# Altium schematic symbol library SCH - MCU - NUVOTON - NUVOTON M451MLG6AE.SchLib: 1 symbol
Pins are listed as number, name and electrical type; pins without a type are passive.

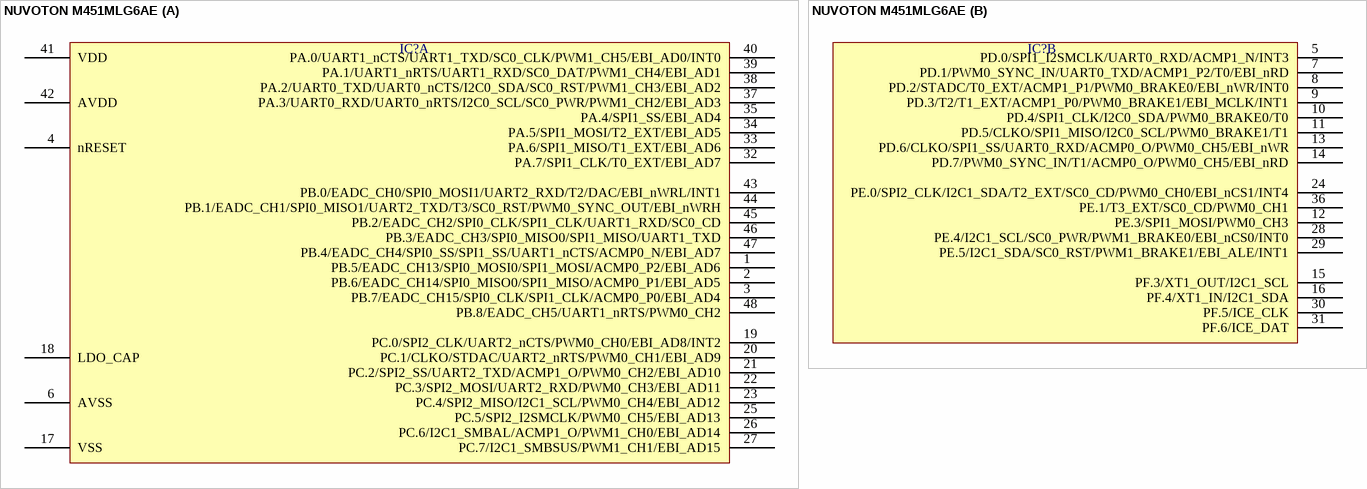
[diagram p0: symbol NUVOTON M451MLG6AE]

## NUVOTON M451MLG6AE
designator IC?  (value not drawn)
part A pins: 1 PB.5/EADC_CH13/SPI0_MOSI0/SPI1_MOSI/ACMP0_P2/EBI_AD6, 2 PB.6/EADC_CH14/SPI0_MISO0/SPI1_MISO/ACMP0_P1/EBI_AD5, 3 PB.7/EADC_CH15/SPI0_CLK/SPI1_CLK/ACMP0_P0/EBI_AD4, 4 nRESET, 6 AVSS, 17 VSS, 18 LDO_CAP, 19 PC.0/SPI2_CLK/UART2_nCTS/PWM0_CH0/EBI_AD8/INT2, 20 PC.1/CLKO/STDAC/UART2_nRTS/PWM0_CH1/EBI_AD9, 21 PC.2/SPI2_SS/UART2_TXD/ACMP1_O/PWM0_CH2/EBI_AD10, 22 PC.3/SPI2_MOSI/UART2_RXD/PWM0_CH3/EBI_AD11, 23 PC.4/SPI2_MISO/I2C1_SCL/PWM0_CH4/EBI_AD12, 25 PC.5/SPI2_I2SMCLK/PWM0_CH5/EBI_AD13, 26 PC.6/I2C1_SMBAL/ACMP1_O/PWM1_CH0/EBI_AD14, 27 PC.7/I2C1_SMBSUS/PWM1_CH1/EBI_AD15, 32 PA.7/SPI1_CLK/T0_EXT/EBI_AD7, 33 PA.6/SPI1_MISO/T1_EXT/EBI_AD6, 34 PA.5/SPI1_MOSI/T2_EXT/EBI_AD5, 35 PA.4/SPI1_SS/EBI_AD4, 37 PA.3/UART0_RXD/UART0_nRTS/I2C0_SCL/SC0_PWR/PWM1_CH2/EBI_AD3, 38 PA.2/UART0_TXD/UART0_nCTS/I2C0_SDA/SC0_RST/PWM1_CH3/EBI_AD2, 39 PA.1/UART1_nRTS/UART1_RXD/SC0_DAT/PWM1_CH4/EBI_AD1, 40 PA.0/UART1_nCTS/UART1_TXD/SC0_CLK/PWM1_CH5/EBI_AD0/INT0, 41 VDD, 42 AVDD, 43 PB.0/EADC_CH0/SPI0_MOSI1/UART2_RXD/T2/DAC/EBI_nWRL/INT1, 44 PB.1/EADC_CH1/SPI0_MISO1/UART2_TXD/T3/SC0_RST/PWM0_SYNC_OUT/EBI_nWRH, 45 PB.2/EADC_CH2/SPI0_CLK/SPI1_CLK/UART1_RXD/SC0_CD, 46 PB.3/EADC_CH3/SPI0_MISO0/SPI1_MISO/UART1_TXD, 47 PB.4/EADC_CH4/SPI0_SS/SPI1_SS/UART1_nCTS/ACMP0_N/EBI_AD7, 48 PB.8/EADC_CH5/UART1_nRTS/PWM0_CH2
part B pins: 5 PD.0/SPI1_I2SMCLK/UART0_RXD/ACMP1_N/INT3, 7 PD.1/PWM0_SYNC_IN/UART0_TXD/ACMP1_P2/T0/EBI_nRD, 8 PD.2/STADC/T0_EXT/ACMP1_P1/PWM0_BRAKE0/EBI_nWR/INT0, 9 PD.3/T2/T1_EXT/ACMP1_P0/PWM0_BRAKE1/EBI_MCLK/INT1, 10 PD.4/SPI1_CLK/I2C0_SDA/PWM0_BRAKE0/T0, 11 PD.5/CLKO/SPI1_MISO/I2C0_SCL/PWM0_BRAKE1/T1, 12 PE.3/SPI1_MOSI/PWM0_CH3, 13 PD.6/CLKO/SPI1_SS/UART0_RXD/ACMP0_O/PWM0_CH5/EBI_nWR, 14 PD.7/PWM0_SYNC_IN/T1/ACMP0_O/PWM0_CH5/EBI_nRD, 15 PF.3/XT1_OUT/I2C1_SCL, 16 PF.4/XT1_IN/I2C1_SDA, 24 PE.0/SPI2_CLK/I2C1_SDA/T2_EXT/SC0_CD/PWM0_CH0/EBI_nCS1/INT4, 28 PE.4/I2C1_SCL/SC0_PWR/PWM1_BRAKE0/EBI_nCS0/INT0, 29 PE.5/I2C1_SDA/SC0_RST/PWM1_BRAKE1/EBI_ALE/INT1, 30 PF.5/ICE_CLK, 31 PF.6/ICE_DAT, 36 PE.1/T3_EXT/SC0_CD/PWM0_CH1